# Altium footprint library DPAK-LD1117DT33TR V2.PcbLib: 1 footprints
Each footprint in its own frame and in the unit in brackets; x right, y up, seen from the top. Pads: shape width x height; smd on the part's side, far side on the other; paste and mask are expansions set on the pad; w line width, h text height; cw(c..) or ccw(c..) is an arc to the next point about the centre after c.
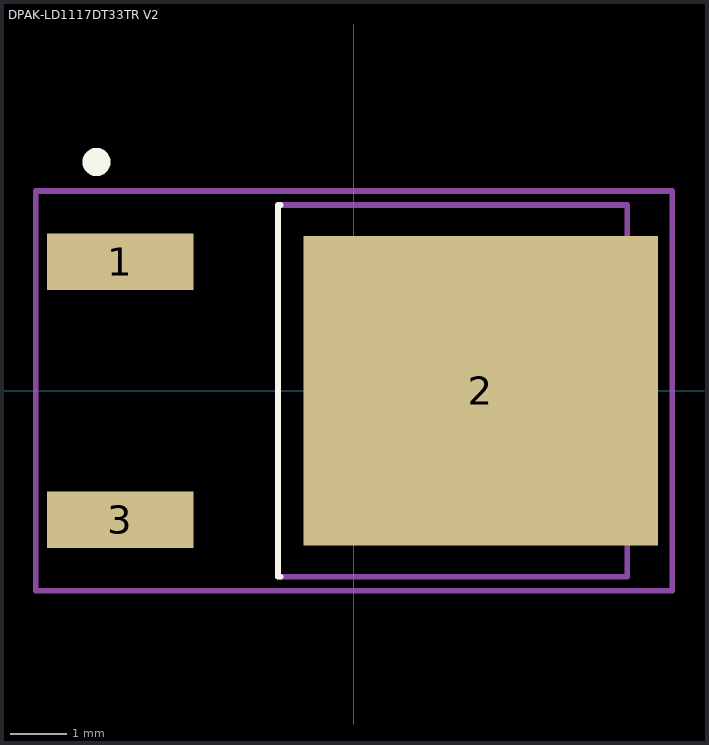
[diagram p0: the footprint, top view; thin cyan lines are the x and y axes]

## DPAK-LD1117DT33TR V2 [mm]
height 2.4
pads (3):
  rect 2.6x1 smd: 1(-4.15,2.29) 3(-4.15,-2.29)
  rect 6.3x5.5 smd: 2(2.25,0)
Top Overlay:
  circle w0.25: c-4.572,4.064 r0.125
  lines w0.1: -1.3,-3.3 -1.35,-3.3 -1.35,3.3 -1.3,3.3
Top 3D Body:
  lines w0.1: -1.35,-3.3 4.85,-3.3 4.85,3.3 -1.35,3.3 -1.35,-3.3
Top Courtyard:
  lines w0.1: -0.5,0 0.5,0 ; 0,-0.5 0,0.5 ; -5.65,-3.55 5.65,-3.55 5.65,3.55 -5.65,3.55 -5.65,-3.55
Top Designator (Mech29):
  text ".Designator" at -3.093,5.382 h1
3D body "DPAK-LD1117DT33TR V2.step": height 2.43, standoff 0, extent -3.875,-3.3 5.85,3.3